# Altium schematic symbol library buttons.SchLib: 1 symbol
Pins are listed as number, name and electrical type; pins without a type are passive.

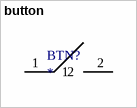
[diagram p0: symbol button]

## button
designator BTN?
footprint 5x5x1.5MM
footprint TD-02XB
pins: 1, 2